# EAGLE library part MCP2515-*/ (library radu-collected)
Microchip MCP2515 CANBus Controller with SPI Interface
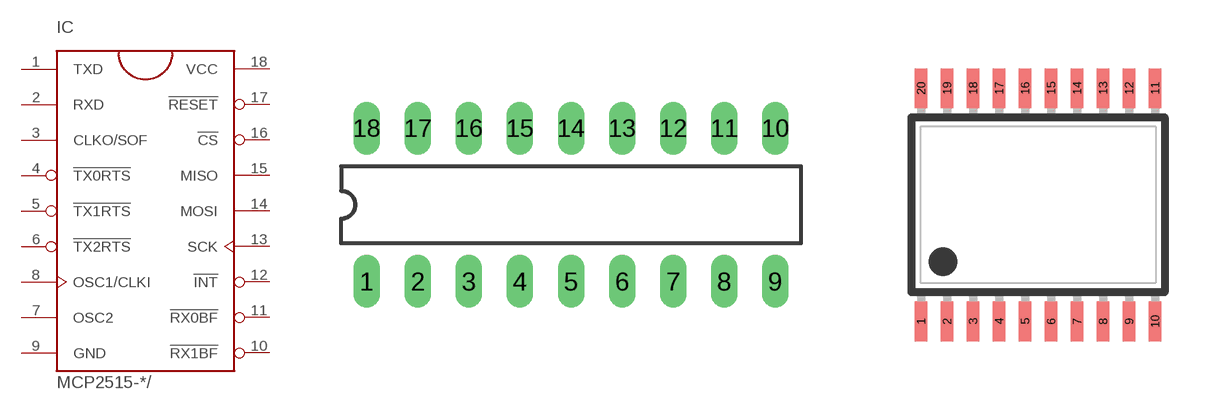
[diagram p9: symbol with the pads of DIL18; footprints DIL18, TSSOP20]

Designator prefix IC

## MCP2515-E/P, MCP2515-I/P  [DIL18]
1  TXD  out
2  RXD  in
3  CLKO/SOF  out
4  !TX0RTS  in
5  !TX1RTS  in
6  !TX2RTS  in
7  OSC2  pas
8  OSC1/CLKI  pas
9  GND  pwr
10  !RX1BF  out
11  !RX0BF  out
12  !INT  out
13  SCK  in
14  MOSI  in
15  MISO  out
16  !CS  in
17  !RESET  in
18  VCC  pwr

## MCP2515-E/ST, MCP2515-I/ST  [TSSOP20]
1  TXD  out
2  RXD  in
3  CLKO/SOF  out
4  !TX0RTS  in
5  !TX1RTS  in
7  !TX2RTS  in
8  OSC2  pas
9  OSC1/CLKI  pas
10  GND  pwr
11  !RX1BF  out
12  !RX0BF  out
13  !INT  out
14  SCK  in
16  MOSI  in
17  MISO  out
18  !CS  in
19  !RESET  in
20  VCC  pwr

## MCP2515-E/SO, MCP2515-I/SO  [SOJ18-3]
Pads as for DIL18

## Footprint DIL18 (pad centres in mm)
Dual In Line Package
drill 0.813 long: 1 -10.16,-3.81; 2 -7.62,-3.81; 3 -5.08,-3.81; 4 -2.54,-3.81; 5 0,-3.81; 6 2.54,-3.81; 7 5.08,-3.81; 8 7.62,-3.81; 9 10.16,-3.81; 10 10.16,3.81; 11 7.62,3.81; 12 5.08,3.81; 13 2.54,3.81; 14 0,3.81; 15 -2.54,3.81; 16 -5.08,3.81; 17 -7.62,3.81; 18 -10.16,3.81

## Footprint TSSOP20 (pad centres in mm)
Thin Shrink Small Outline Plastic 20 MAX3223-MAX3243.pdf
smd 0.305 x 0.991: 1 -2.925,-2.918; 2 -2.275,-2.918; 3 -1.625,-2.918; 4 -0.975,-2.918; 5 -0.325,-2.918; 6 0.325,-2.918; 7 0.975,-2.918; 8 1.625,-2.918; 9 2.275,-2.918; 10 2.925,-2.918; 11 2.925,2.918; 12 2.275,2.918; 13 1.625,2.918; 14 0.975,2.918; 15 0.325,2.918; 16 -0.325,2.918; 17 -0.975,2.918; 18 -1.625,2.918; 19 -2.275,2.918; 20 -2.925,2.918

## Footprint SOJ18-3 (pad centres in mm)
SMALL OUTLINE J LEADS body 7.63 mm
smd 0.6 x 2.2: 1 -5.08,-3.6; 2 -3.81,-3.6; 3 -2.54,-3.6; 4 -1.27,-3.6; 5 0,-3.6; 6 1.27,-3.6; 7 2.54,-3.6; 8 3.81,-3.6; 9 5.08,-3.6; 10 5.08,3.6; 11 3.81,3.6; 12 2.54,3.6; 13 1.27,3.6; 14 0,3.6; 15 -1.27,3.6; 16 -2.54,3.6; 17 -3.81,3.6; 18 -5.08,3.6